# Altium footprint library PcbLib1.PcbLib: 329 footprints (part 21 of 21)
Each footprint in its own frame and in the unit in brackets; x right, y up, seen from the top. Pads: shape width x height; smd on the part's side, far side on the other; paste and mask are expansions set on the pad; w line width, h text height; cw(c..) or ccw(c..) is an arc to the next point about the centre after c.
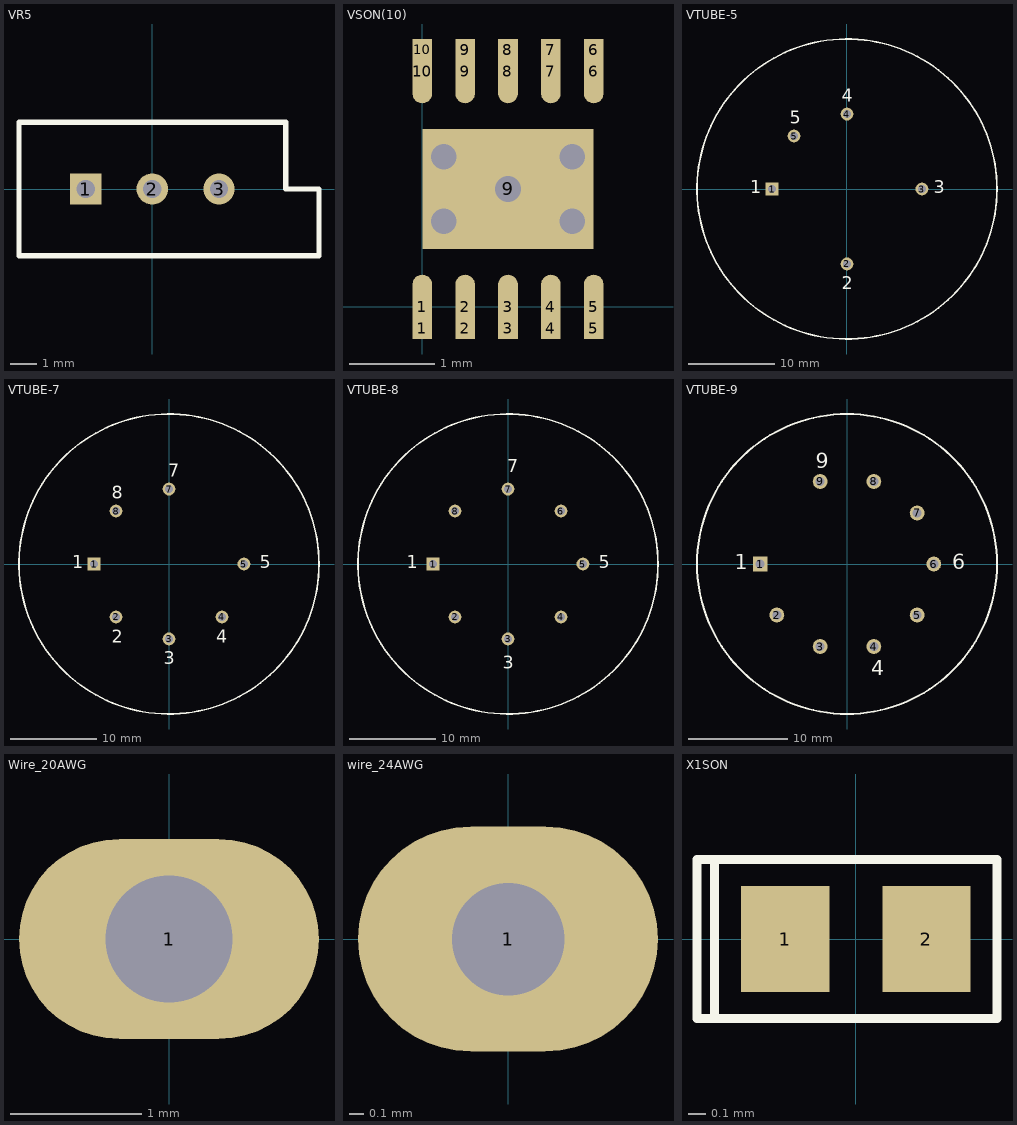
[diagram p20: the footprints below, top view; thin cyan lines are the x and y axes]

## VR5 [mm] "Thru-Hole; 3 Leads"
pads (3):
  rect 1.2x1.2 hole 0.7: 1(-2.54,0)
  round 1.2 hole 0.7: 2(0,0) 3(2.54,0)
Top Overlay:
  lines w0.2: -5.08,-2.54 6.35,-2.54 6.35,0 5.08,0 5.08,2.54 -5.08,2.54 -5.08,-2.54

## VSON(10) [mm]
pads (21):
  rect 0.23x0.25 smd: 1(0,-0.25) 2(0.5,-0.25) 3(1,-0.25) 4(1.5,-0.25) 5(2,-0.25) 6(2,3) 7(1.5,3) 8(1,3) 9(0.5,3) 10(0,3)
  oval 0.23x0.75 smd: 1(0,0) 2(0.5,0) 3(1,0) 4(1.5,0) 5(2,0) 6(2,2.75) 7(1.5,2.75) 8(1,2.75) 9(0.5,2.75) 10(0,2.75)
  rect 2x1.4 smd: 9(1,1.375)
via 1,1.375 diameter 0.3 hole 0.3
via 1.75,1 diameter 0.3 hole 0.3
via 1.75,1.75 diameter 0.3 hole 0.3
via 0.25,1 diameter 0.3 hole 0.3
via 0.25,1.75 diameter 0.3 hole 0.3
3D body "VSON_10.step": height 0.95, standoff -0.05, extent -0.5,-0.125 2.5,2.875

## VTUBE-5 [mm] "Vacuum Tube; 5 Leads"
pads (5):
  rect 1.5x1.5 hole 0.9: 1(-8.725,0)
  round 1.5 hole 0.9: 2(0,-8.725) 3(8.725,0) 4(0,8.725) 5(-6.17,6.17)
Top Overlay:
  circle w0.2: c0,0 r17.462
  text "1" at -11.265,-0.508 h1.5
  text "2" at -0.597,-11.684 h1.5
  text "4" at -0.597,10.16 h1.5
  text "5" at -6.693,7.62 h1.5
  text "3" at 10.071,-0.508 h1.5

## VTUBE-7 [mm] "Vacuum Tube; 7 Leads"
height 108
pads (7):
  rect 1.5x1.5 hole 0.9: 1(-8.725,0)
  round 1.5 hole 0.9: 2(-6.17,-6.17) 3(0,-8.725) 4(6.17,-6.17) 5(8.725,0) 7(0,8.725) 8(-6.17,6.17)
Top Overlay:
  circle w0.2: c0,0 r17.462
  text "8" at -6.693,7.62 h1.5
  text "7" at -0.089,10.16 h1.5
  text "5" at 10.579,-0.508 h1.5
  text "4" at 5.499,-9.144 h1.5
  text "3" at -0.597,-11.684 h1.5
  text "2" at -6.693,-9.144 h1.5
  text "1" at -11.265,-0.508 h1.5

## VTUBE-8 [mm] "Vacuum Tube; 8 Leads"
height 108
pads (8):
  rect 1.5x1.5 hole 0.9: 1(-8.725,0)
  round 1.5 hole 0.9: 2(-6.17,-6.17) 3(0,-8.725) 4(6.17,-6.17) 5(8.725,0) 6(6.17,6.17) 7(0,8.725) 8(-6.17,6.17)
Top Overlay:
  circle w0.2: c0,0 r17.462
  text "1" at -11.773,-0.508 h1.5
  text "3" at -0.597,-12.192 h1.5
  text "5" at 10.579,-0.508 h1.5
  text "7" at -0.089,10.668 h1.5

## VTUBE-9 [mm] "Vacuum Tube; 9 Leads"
height 66.7
pads (9):
  rect 1.5x1.5 hole 0.9: 1(-8.725,0)
  round 1.5 hole 0.9: 2(-7.059,-5.128) 3(-2.696,-8.298) 4(2.696,-8.298) 5(7.059,-5.128) 6(8.725,0) 7(7.059,5.128) 8(2.696,8.298) 9(-2.696,8.298)
Top Overlay:
  circle w0.2: c0,0 r15.081
  text "1" at -11.265,-0.508 h1.5
  text "9" at -3.137,9.652 h1.5
  text "6" at 10.579,-0.508 h1.5
  text "4" at 2.451,-11.176 h1.5

## Wire_20AWG [mil]
pads (1):
  oval 90x60 hole 38.19: 1(0,0)

## wire_24AWG [mil]
pads (1):
  oval 80x60 hole 30: 1(0,0)

## X1SON [mm] "SMT TVS X1SON"
height 1.2
pads (2):
  rect 0.5x0.6 smd: 1(-0.4,0) 2(0.4,0)
Top Overlay:
  lines w0.05: -0.8,-0.45 -0.8,0.45 ; -0.9,-0.45 -0.9,0.45 0.8,0.45 0.8,-0.45 -0.9,-0.45
3D body "TVS_0402.step": height 0.56, standoff 0, extent -0.546,-0.33 0.546,0.33